# Altium integrated library YC248-JR-070RL.IntLib: 1 symbol
Pins are listed as number, name and electrical type; pins without a type are passive.

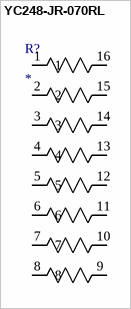
[diagram p0: symbol YC248-JR-070RL]

## YC248-JR-070RL
designator R?
No Description Available; Mfr_Name: Yageo
footprint RES_YC248_4X1P6_YAG-M
pins: 1, 2, 3, 4, 5, 6, 7, 8, 9, 10, 11, 12, 13, 14, 15, 16